# EAGLE library part SCART-F (library con-hirschmann)
TV SCART CONNECTOR
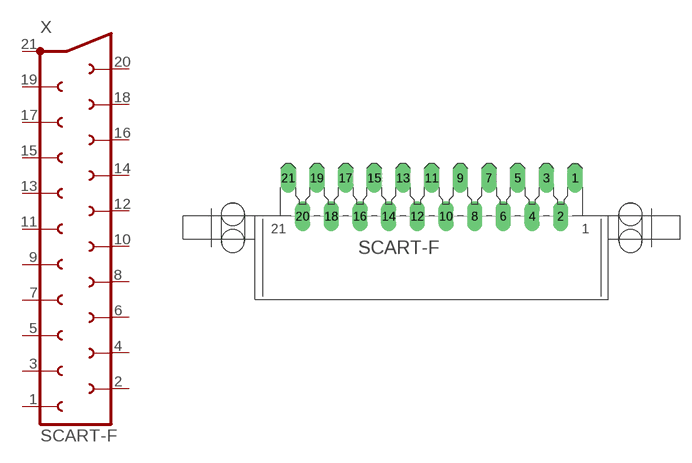
[diagram p2: symbol with the pads of SCART-F; footprint SCART-F]

Designator prefix X

## SCART-F (OC_FARNELL: unknown; OC_NEWARK: unknown)  [SCART-F]
1  1  pas
2  2  pas
3  3  pas
4  4  pas
5  5  pas
6  6  pas
7  7  pas
8  8  pas
9  9  pas
10  10  pas
11  11  pas
12  12  pas
13  13  pas
14  14  pas
15  15  pas
16  16  pas
17  17  pas
18  18  pas
19  19  pas
20  20  pas
21  21  pas

## Footprint SCART-F (pad centres in mm)
TV SCART CONNECTOR
drill 1.321 long: 1 19.05,5.08; 2 17.145,0; 3 15.24,5.08; 4 13.335,0; 5 11.43,5.08; 6 9.525,0; 7 7.62,5.08; 8 5.715,0; 9 3.81,5.08; 10 1.905,0; 11 0,5.08; 12 -1.905,0; 13 -3.81,5.08; 14 -5.715,0; 15 -7.62,5.08; 16 -9.525,0; 17 -11.43,5.08; 18 -13.335,0; 19 -15.24,5.08; 20 -17.145,0; 21 -19.05,5.08
hole 3.023 at 26.416,0.254
hole 3.023 at 26.416,-3.302
hole 3.023 at -26.416,0.254
hole 3.023 at -26.416,-3.302